# EAGLE library part MC74ACT245DWR2G (library 2_Axis_External_Driver)
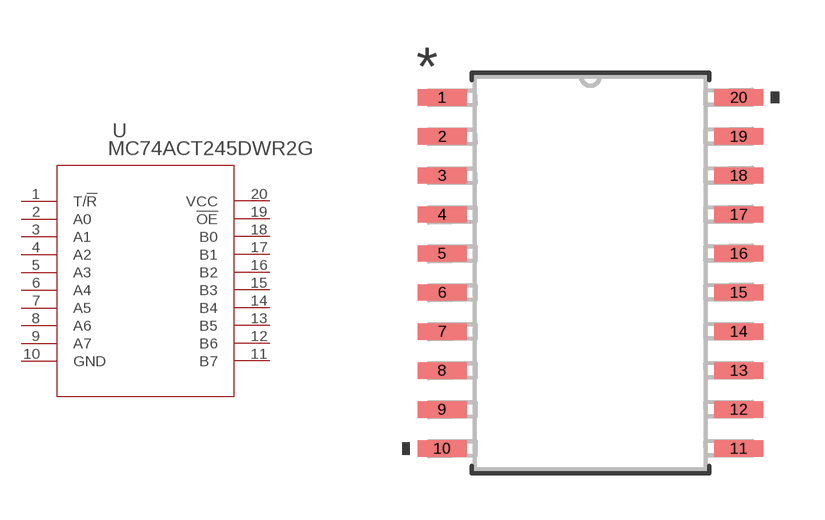
[diagram p1: symbol with the pads of SOIC-20WB_ONS; footprint SOIC-20WB_ONS]

Designator prefix U

## MC74ACT245DWR2G (COPYRIGHT: Copyright (C) 2022 Ultra Librarian. All rights reserved.; MANUFACTURER_PART_NUMBER: MC74ACT245DWR2G; MFR_NAME: onsemi)  [SOIC-20WB_ONS]
1  T/!R  in
2  A0
3  A1
4  A2
5  A3
6  A4
7  A5
8  A6
9  A7
10  GND  pwr
11  B7
12  B6
13  B5
14  B4
15  B3
16  B2
17  B1
18  B0
19  !OE
20  VCC  pwr

## Footprint SOIC-20WB_ONS (pad centres in mm)
smd 1.589 x 0.533: 1 -4.826,5.715; 2 -4.826,4.445; 3 -4.826,3.175; 4 -4.826,1.905; 5 -4.826,0.635; 6 -4.826,-0.635; 7 -4.826,-1.905; 8 -4.826,-3.175; 9 -4.826,-4.445; 10 -4.826,-5.715; 11 4.826,-5.715; 12 4.826,-4.445; 13 4.826,-3.175; 14 4.826,-1.905; 15 4.826,-0.635; 16 4.826,0.635; 17 4.826,1.905; 18 4.826,3.175; 19 4.826,4.445; 20 4.826,5.715